# Altium schematic symbol library Header_Sch.SchLib: 10 symbols
Pins are listed as number, name and electrical type; pins without a type are passive.

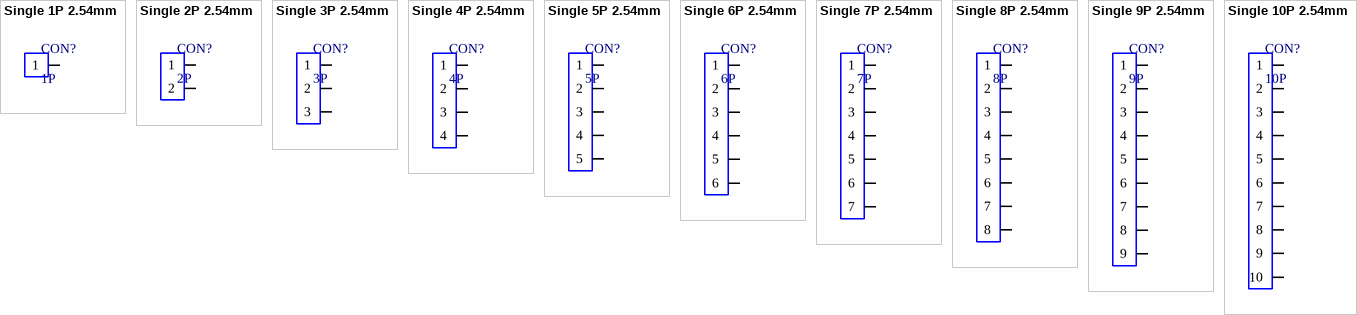
[diagram p0: symbols Single 1P 2.54mm to Single 10P 2.54mm]

## Single 1P 2.54mm
designator CON?, comment 1P
footprint Single_THT_1P_2.54Pitch_6Height_180C
pins: 1

## Single 2P 2.54mm
designator CON?, comment 2P
footprint Single_THT_2P_2.54Pitch_6Height_180C
pins: 1, 2

## Single 3P 2.54mm
designator CON?, comment 3P
footprint Single_THT_3P_2.54Pitch_6Height_180C
pins: 1, 2, 3

## Single 4P 2.54mm
designator CON?, comment 4P
footprint Single_THT_4P_2.54Pitch_6Height_180C
pins: 1, 2, 3, 4

## Single 5P 2.54mm
designator CON?, comment 5P
footprint Single_THT_5P_2.54Pitch_6Height_180C
pins: 1, 2, 3, 4, 5

## Single 6P 2.54mm
designator CON?, comment 6P
footprint Single_THT_6P_2.54Pitch_6Height_180C
pins: 1, 2, 3, 4, 5, 6

## Single 7P 2.54mm
designator CON?, comment 7P
footprint Single_THT_7P_2.54Pitch_6Height_180C
pins: 1, 2, 3, 4, 5, 6, 7

## Single 8P 2.54mm
designator CON?, comment 8P
footprint Single_THT_8P_2.54Pitch_6Height_180C
pins: 1, 2, 3, 4, 5, 6, 7, 8

## Single 9P 2.54mm
designator CON?, comment 9P
footprint Single_THT_9P_2.54Pitch_6Height_180C
pins: 1, 2, 3, 4, 5, 6, 7, 8, 9

## Single 10P 2.54mm
designator CON?, comment 10P
footprint Single_THT_10P_2.54Pitch_6Height_180C
pins: 1, 2, 3, 4, 5, 6, 7, 8, 9, 10